# EAGLE library part FT230X (library New_Parts)
USB to BASIC UART IC Auto generated by make-symbol-device-package-bsdl.ulp Rev. 43 Source: Data sheet <http://www.ftdichip.com/Support/Documents/DataSheets/ICs/DS_FT230X.pdf>
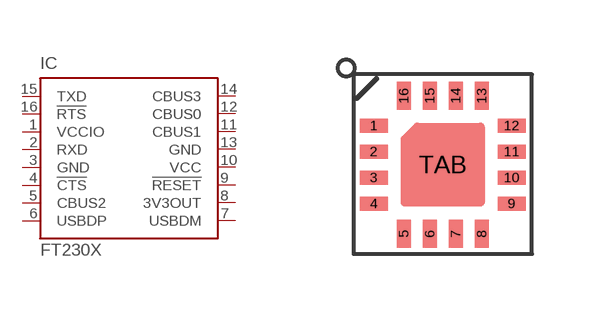
[diagram p0: symbol with the pads of QFN16; footprint QFN16]

Designator prefix IC

## FT230XQ (DIGIKEY_PART: 768-1130-2-ND; PROD_ID: IC-15930; VALUE: FT230XQ)  [QFN16]
1  VCCIO  pwr
2  RXD  in
3  GND  pwr
4  !CTS  in
5  CBUS2
6  USBDP  in
7  USBDM  in
8  3V3OUT  out
9  !RESET  in
10  VCC  pwr
11  CBUS1
12  CBUS0
13  GND  pwr
14  CBUS3
15  TXD  out
16  !RTS  out

## Footprint QFN16 (pad centres in mm)
QFN-16 4 x 4 mm Source: Data sheet <http://www.ftdichip.com/Support/Documents/DataSheets/ICs/DS_FT230X.pdf>
smd 0.7 x 0.35: 1 -1.725,0.975; 2 -1.725,0.325; 3 -1.725,-0.325; 4 -1.725,-0.975; 9 1.725,-0.975; 10 1.725,-0.325; 11 1.725,0.325; 12 1.725,0.975
smd 0.35 x 0.7: 5 -0.975,-1.725; 6 -0.325,-1.725; 7 0.325,-1.725; 8 0.975,-1.725; 13 0.975,1.725; 14 0.325,1.725; 15 -0.325,1.725; 16 -0.975,1.725
smd 1 x 1: TAB 0,0